# Altium schematic symbol library Components.SchLib: 216 symbols (part 2 of 2)
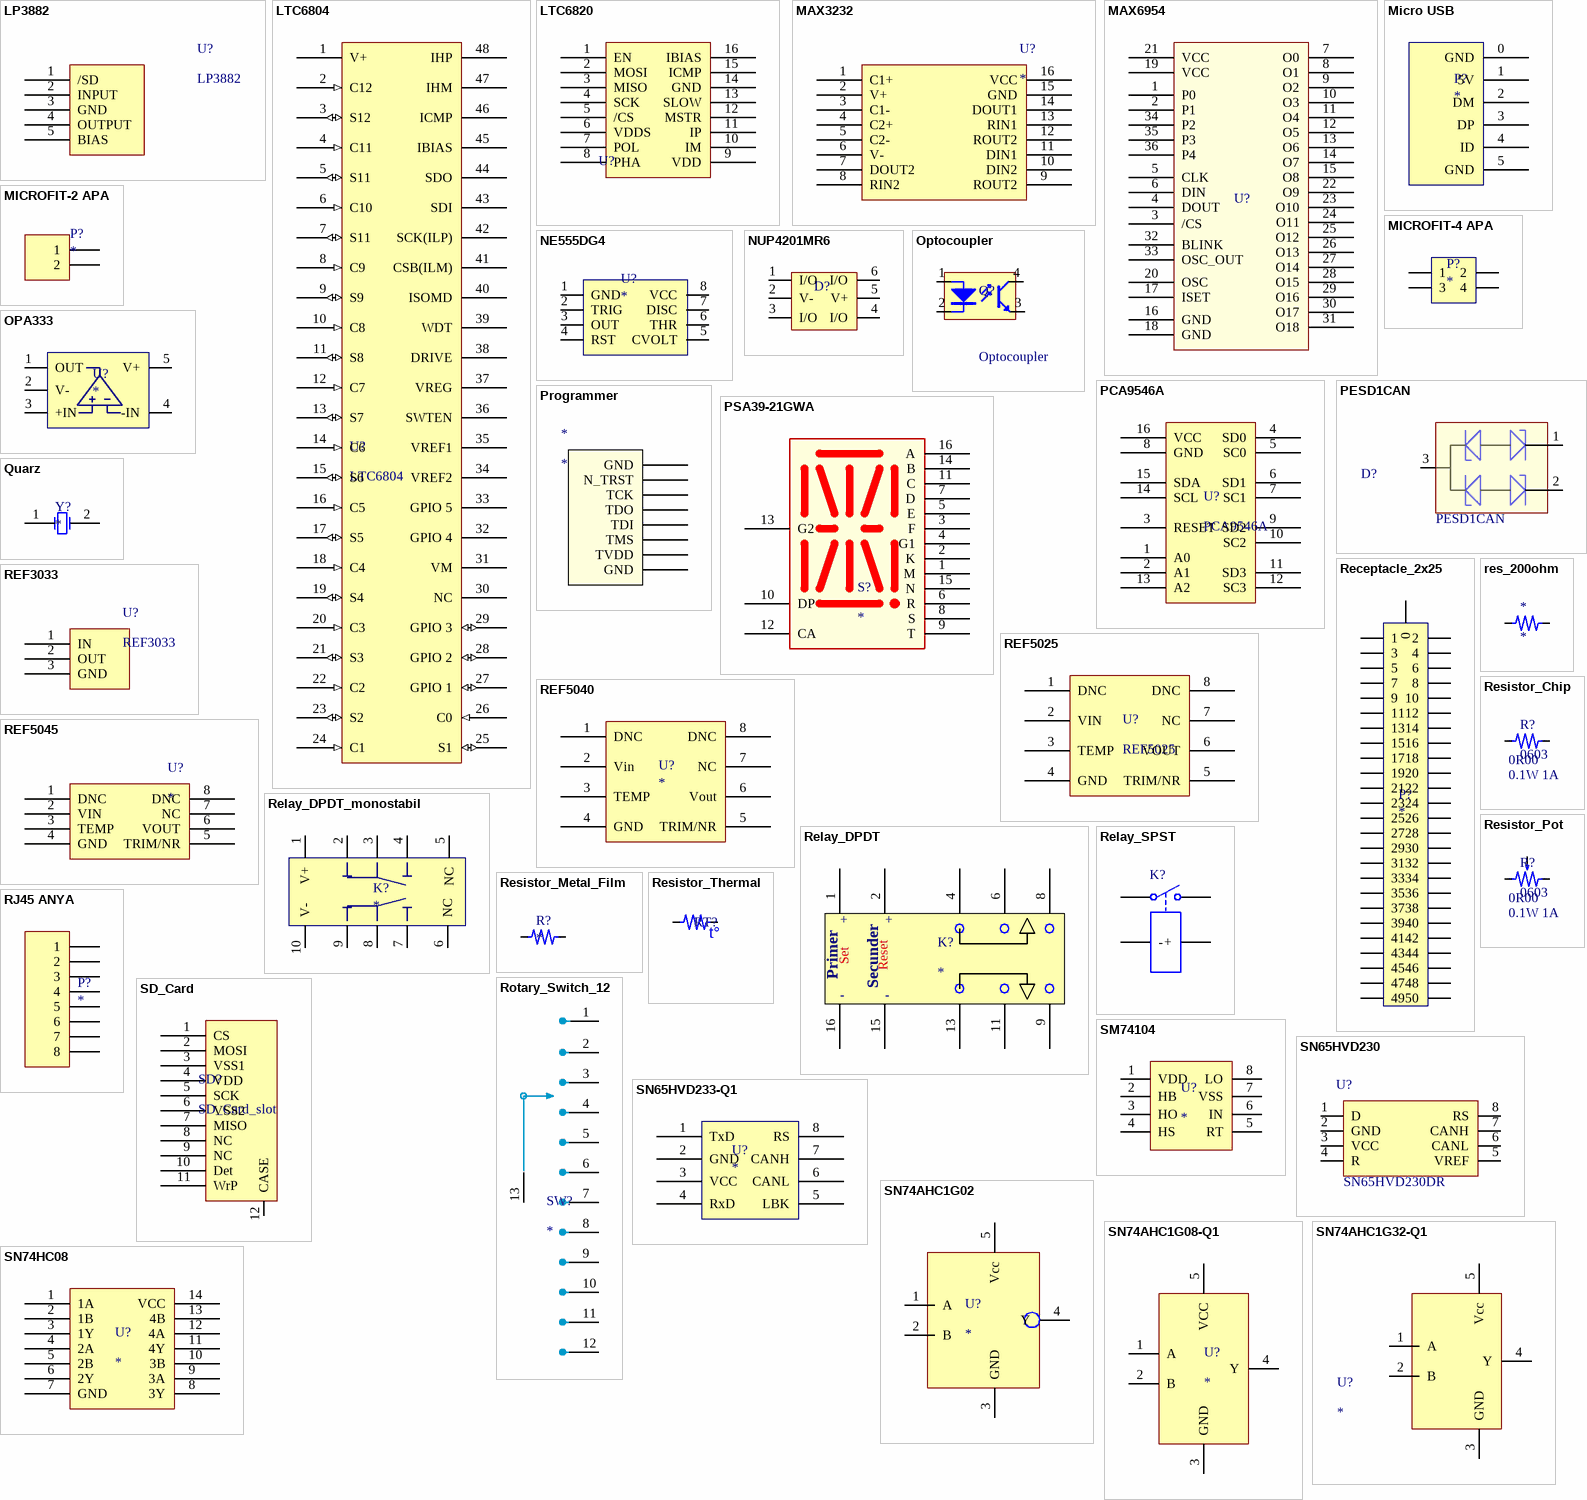
[diagram p10: symbols LP3882 to SN74HC08]

## SD_Card
designator SD?, comment SD_Card_slot
footprint SD_CARD
pins: 1 CS, 2 MOSI, 3 VSS1, 4 VDD, 5 SCK, 6 VSS2, 7 MISO, 8 NC, 9 NC, 10 Det, 11 WrP, 12 CASE

## SM74104
designator U?
High Voltage Half-Bridge Gate Driver
footprint SOIC-8
pins: 1 VDD, 2 HB, 3 HO, 4 HS, 5 RT, 6 IN, 7 VSS, 8 LO

## SN65HVD230
designator U?  value SN65HVD230DR
CAN Transceiver; Distributor: Farnell; Type: IC / CAN; Package: SOIC-8; Link: http://hu.farnell.com/texas-instruments/sn65hvd230dr/ic-can-transceiver-1mbps-8soic/dp/8452148?ost=8452148
footprint SOIC-8
pins: 1 D, 2 GND, 3 VCC, 4 R, 5 VREF, 6 CANL, 7 CANH, 8 RS

## SN65HVD233-Q1
designator U?
CAN Transceiver; Order number: SN65HVD233QDRQ1; Link: http://www.ti.com/product/SN65HVD233-Q1/description
footprint SOIC-8
pins: 1 TxD, 2 GND, 3 VCC, 4 RxD, 5 LBK, 6 CANL, 7 CANH, 8 RS

## SN74AHC1G02
designator U?
footprint SOT-23-5 (SOT23, 5-Leads, Body 2,90x2,80mm, Pitch 0,95mm, IPC Medium Density)
pins: 1 A, 2 B, 3 GND, 4 Y, 5 Vcc

## SN74AHC1G08-Q1
designator U?
AND Gate; Order number: 2346704; Link: http://www.ti.com/product/sn74ahc1g08-q1; Distributor: Farnell; Value: AND gate
footprint SOT-23-5 (SOT23, 5-Leads, Body 2,90x2,80mm, Pitch 0,95mm, IPC Medium Density)
pins: 1 A, 2 B, 3 GND, 4 Y, 5 VCC

## SN74AHC1G32-Q1
designator U?
OR Gate; Distributor: *; Link: http://www.ti.com/product/sn74ahc1g32-q1
footprint SOT-23-5 (SOT23, 5-Leads, Body 2,90x2,80mm, Pitch 0,95mm, IPC Medium Density)
pins: 1 A, 2 B, 3 GND, 4 Y, 5 Vcc

## SN74HC08
designator U?
footprint TSSOP-14N (TSOP, 14-Leads, Body 5,00x4,40mm, Pitch 0,65mm, IPC Medium Density)
pins: 1 1A, 2 1B, 3 1Y, 4 2A, 5 2B, 6 2Y, 7 GND, 8 3Y, 9 3A, 10 3B, 11 4Y, 12 4A, 13 4B, 14 VCC

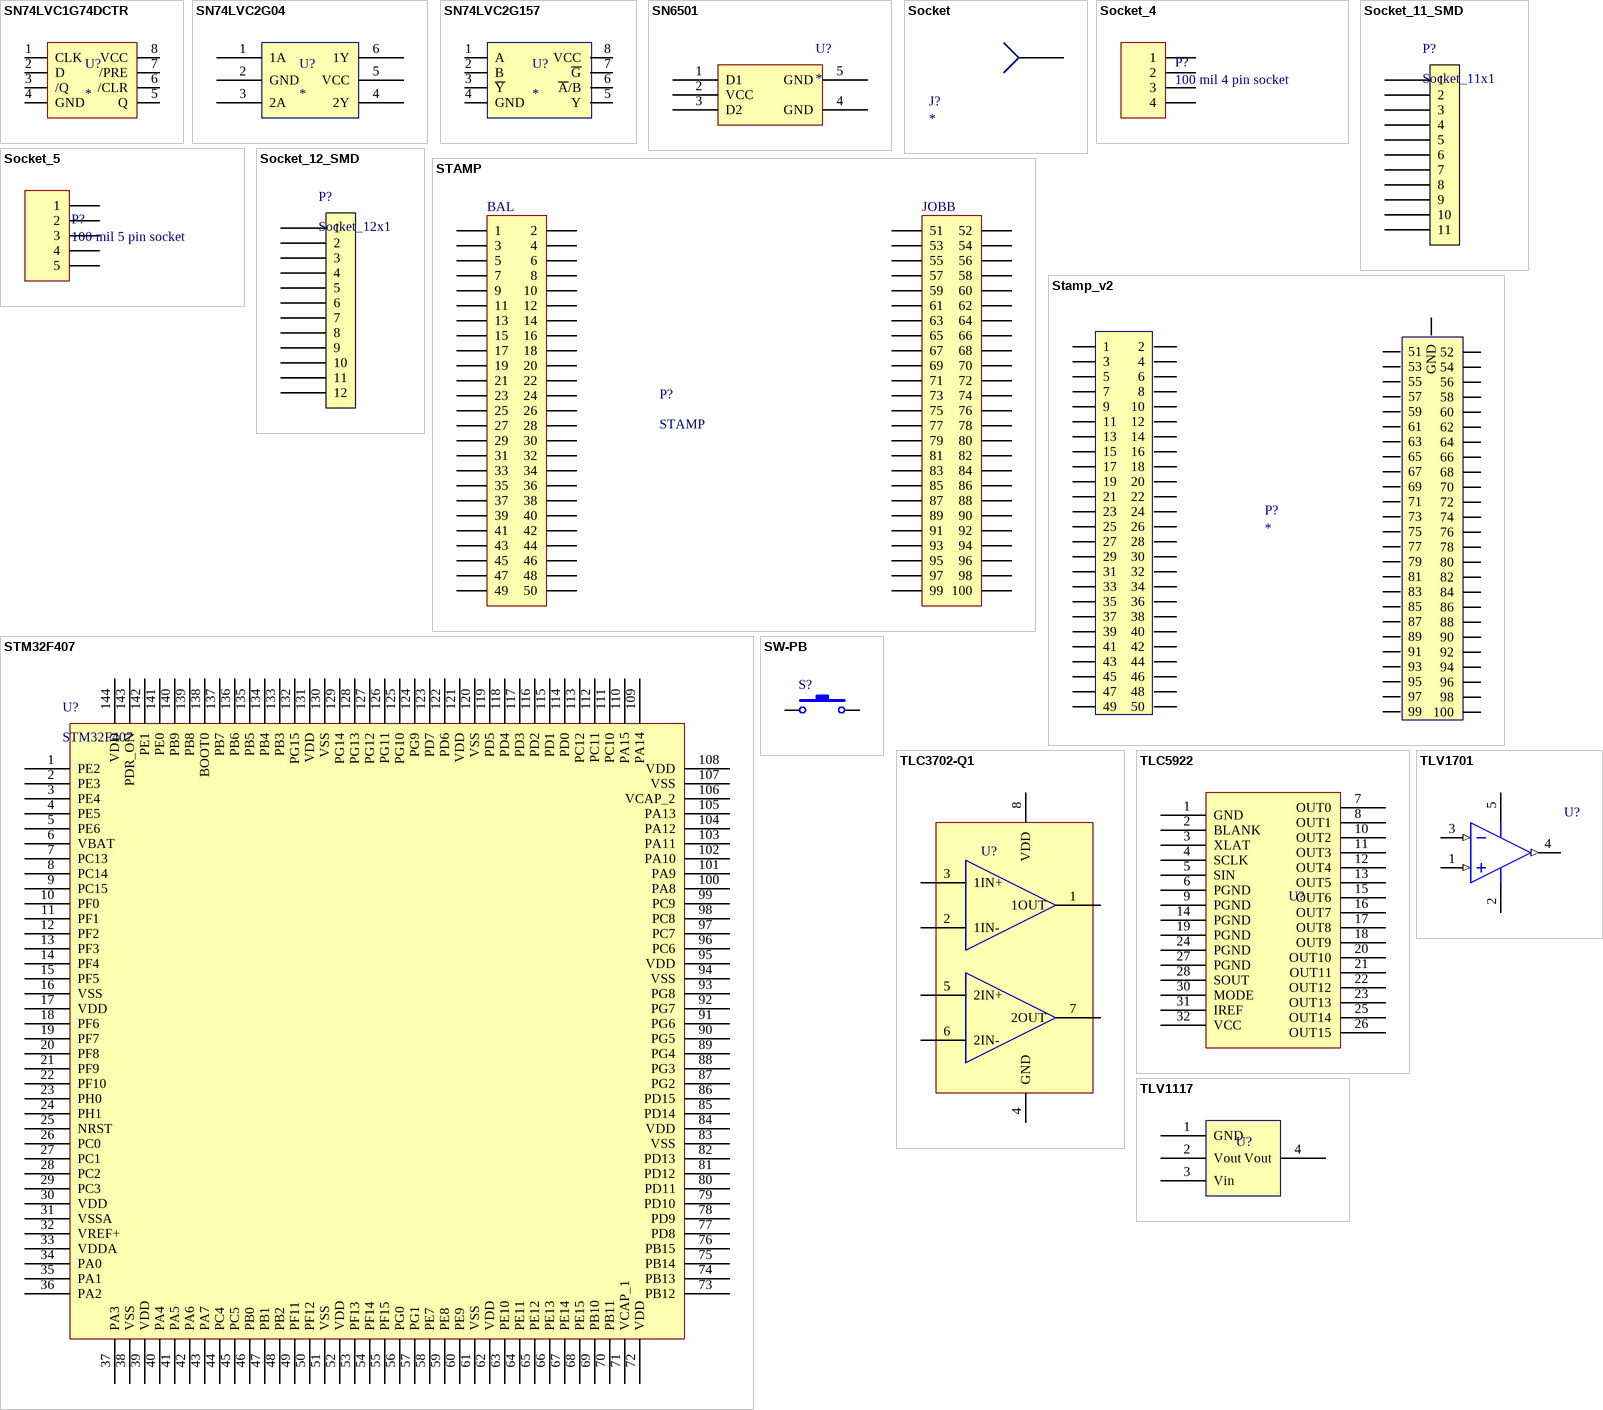
[diagram p7: symbols SN74LVC1G74DCTR to TLV1701]

## SN74LVC1G74DCTR
designator U?
footprint DCTR (SN74LVC1G74DCTR)
pins: 1 CLK, 2 D, 3 /Q, 4 GND, 5 Q, 6 /CLR, 7 /PRE, 8 VCC

## SN74LVC2G04
designator U?
Inverter
footprint SOT-23-6 (SOT23, 6-Leads, Body 2,90x3,60mm, Pitch 0,95mm, IPC High Density)
pins: 1 1A, 2 GND, 3 2A, 4 2Y, 5 VCC, 6 1Y

## SN74LVC2G157
designator U?
footprint VSSOP-8
pins: 1 A, 2 B, 3 ~{Y}, 4 GND, 5 Y, 6 ~{A}/B, 7 ~{G}, 8 VCC

## SN6501
designator U?
Distributor: Farnell; Type: SN6501DBVT
footprint SOT-23-5 (SOT23, 5-Leads, Body 2,90x2,80mm, Pitch 0,95mm, IPC Medium Density)
pins: 1 D1, 2 VCC, 3 D2, 4 GND, 5 GND

## Socket
designator J?
footprint TAB 6.35MM x 0.81MM
pins: 1

## Socket_4
designator P?, comment 100 mil 4 pin socket
footprint 4pin Socket
pins: 1, 2, 3, 4

## Socket_5
designator P?, comment 100 mil 5 pin socket
footprint 5pin Socket
pins: 1, 2, 3, 4, 5

## Socket_11_SMD
designator P?, comment Socket_11x1
100 mil 11 pin SMD socket
footprint 11PIN_SOCKET_SMD
pins: 1, 2, 3, 4, 5, 6, 7, 8, 9, 10, 11

## Socket_12_SMD
designator P?, comment Socket_12x1
100 mil 12 pin SMD socket
footprint 12PIN_SOCKET_SMD
pins: 1, 2, 3, 4, 5, 6, 7, 8, 9, 10, 11, 12

## STAMP
designator P?
footprint STAMP
pins: 1, 2, 3, 4, 5, 6, 7, 8, 9, 10, 11, 12, 13, 14, 15, 16, 17, 18, 19, 20, 21, 22, 23, 24, 25, 26, 27, 28, 29, 30, 31, 32, 33, 34, 35, 36, 37, 38, 39, 40, 41, 42, 43, 44, 45, 46, 47, 48, 49, 50, 51, 52, 53, 54, 55, 56, 57, 58, 59, 60, 61, 62, 63, 64, 65, 66, 67, 68, 69, 70, 71, 72, 73, 74, 75, 76, 77, 78, 79, 80, 81, 82, 83, 84, 85, 86, 87, 88, 89, 90, 91, 92, 93, 94, 95, 96, 97, 98, 99, 100
text: BAL; JOBB

## Stamp_v2
designator P?
footprint Stamp_v2
pins: 1, 2, 3, 4, 5, 6, 7, 8, 9, 10, 11, 12, 13, 14, 15, 16, 17, 18, 19, 20, 21, 22, 23, 24, 25, 26, 27, 28, 29, 30, 31, 32, 33, 34, 35, 36, 37, 38, 39, 40, 41, 42, 43, 44, 45, 46, 47, 48, 49, 50, 51, 52, 53, 54, 55, 56, 57, 58, 59, 60, 61, 62, 63, 64, 65, 66, 67, 68, 69, 70, 71, 72, 73, 74, 75, 76, 77, 78, 79, 80, 81, 82, 83, 84, 85, 86, 87, 88, 89, 90, 91, 92, 93, 94, 95, 96, 97, 98, 99, 100, GND

## STM32F407
designator U?
footprint LQFP-144 (TSQFP, 144-Leads, Body 20,00x20,00mm, Pitch 0,50mm, IPC Medium Density)
pins: 1 PE2, 2 PE3, 3 PE4, 4 PE5, 5 PE6, 6 VBAT, 7 PC13, 8 PC14, 9 PC15, 10 PF0, 11 PF1, 12 PF2, 13 PF3, 14 PF4, 15 PF5, 16 VSS, 17 VDD, 18 PF6, 19 PF7, 20 PF8, 21 PF9, 22 PF10, 23 PH0, 24 PH1, 25 NRST, 26 PC0, 27 PC1, 28 PC2, 29 PC3, 30 VDD, 31 VSSA, 32 VREF+, 33 VDDA, 34 PA0, 35 PA1, 36 PA2, 37 PA3, 38 VSS, 39 VDD, 40 PA4, 41 PA5, 42 PA6, 43 PA7, 44 PC4, 45 PC5, 46 PB0, 47 PB1, 48 PB2, 49 PF11, 50 PF12, 51 VSS, 52 VDD, 53 PF13, 54 PF14, 55 PF15, 56 PG0, 57 PG1, 58 PE7, 59 PE8, 60 PE9, 61 VSS, 62 VDD, 63 PE10, 64 PE11, 65 PE12, 66 PE13, 67 PE14, 68 PE15, 69 PB10, 70 PB11, 71 VCAP_1, 72 VDD, 73 PB12, 74 PB13, 75 PB14, 76 PB15, 77 PD8, 78 PD9, 79 PD10, 80 PD11, 81 PD12, 82 PD13, 83 VSS, 84 VDD, 85 PD14, 86 PD15, 87 PG2, 88 PG3, 89 PG4, 90 PG5, 91 PG6, 92 PG7, 93 PG8, 94 VSS, 95 VDD, 96 PC6, 97 PC7, 98 PC8, 99 PC9, 100 PA8, 101 PA9, 102 PA10, 103 PA11, 104 PA12, 105 PA13, 106 VCAP_2, 107 VSS, 108 VDD, 109 PA14, 110 PA15, 111 PC10, 112 PC11, 113 PC12, 114 PD0, 115 PD1, 116 PD2, 117 PD3, 118 PD4, 119 PD5, 120 VSS, 121 VDD, 122 PD6, 123 PD7, 124 PG9, 125 PG10, 126 PG11, 127 PG12, 128 PG13, 129 PG14, 130 VSS, 131 VDD, 132 PG15, 133 PB3, 134 PB4, 135 PB5, 136 PB6, 137 PB7, 138 BOOT0, 139 PB8, 140 PB9, 141 PE0, 142 PE1, 143 PDR_ON, 144 VDD

## SW-PB
designator S?
Switch
footprint SWITCH
pins: 1, 2

## TLC3702-Q1
designator U?
Dual Comparator; Distributor: *; Link: http://www.ti.com/product/tlc3702-q1
footprint SOIC-8
pins: 1 1OUT, 2 1IN-, 3 1IN+, 4 GND, 5 2IN+, 6 2IN-, 7 2OUT, 8 VDD

## TLC5922
designator U?
16 channel LED Driver
footprint HTSSOP-32 (TSSOP, 32-Leads, Body 11.10x6.10mm, Pitch 0.65mm, Thermal Pad 3.91x3.61mm, IPC Medium Density)
pins: 1 GND, 2 BLANK, 3 XLAT, 4 SCLK, 5 SIN, 6 PGND, 7 OUT0, 8 OUT1, 9 PGND, 10 OUT2, 11 OUT3, 12 OUT4, 13 OUT5, 14 PGND, 15 OUT6, 16 OUT7, 17 OUT8, 18 OUT9, 19 PGND, 20 OUT10, 21 OUT11, 22 OUT12, 23 OUT13, 24 PGND, 25 OUT14, 26 OUT15, 27 PGND, 28 SOUT, 30 MODE, 31 IREF, 32 VCC

## TLV1117
designator U?
Single Output LDO
footprint SOT-223 (SOT223, 4-Leads, Body 6,50x7,00mm (avg), Pitch 2,30mm, IPC Medium Density)
pins: 1 GND, 2 Vout, 3 Vin, 4 Vout

## TLV1701
designator U?
FET Operational Amplifier
footprint SOT-23-5 (SOT23, 5-Leads, Body 2,90x2,80mm, Pitch 0,95mm, IPC Medium Density)
simulation model AD645A (Spice Subcircuit)
pins: 1 IN+ (in), 2 V- (power), 3 IN- (in), 4 OUT (out), 5 V+ (power)

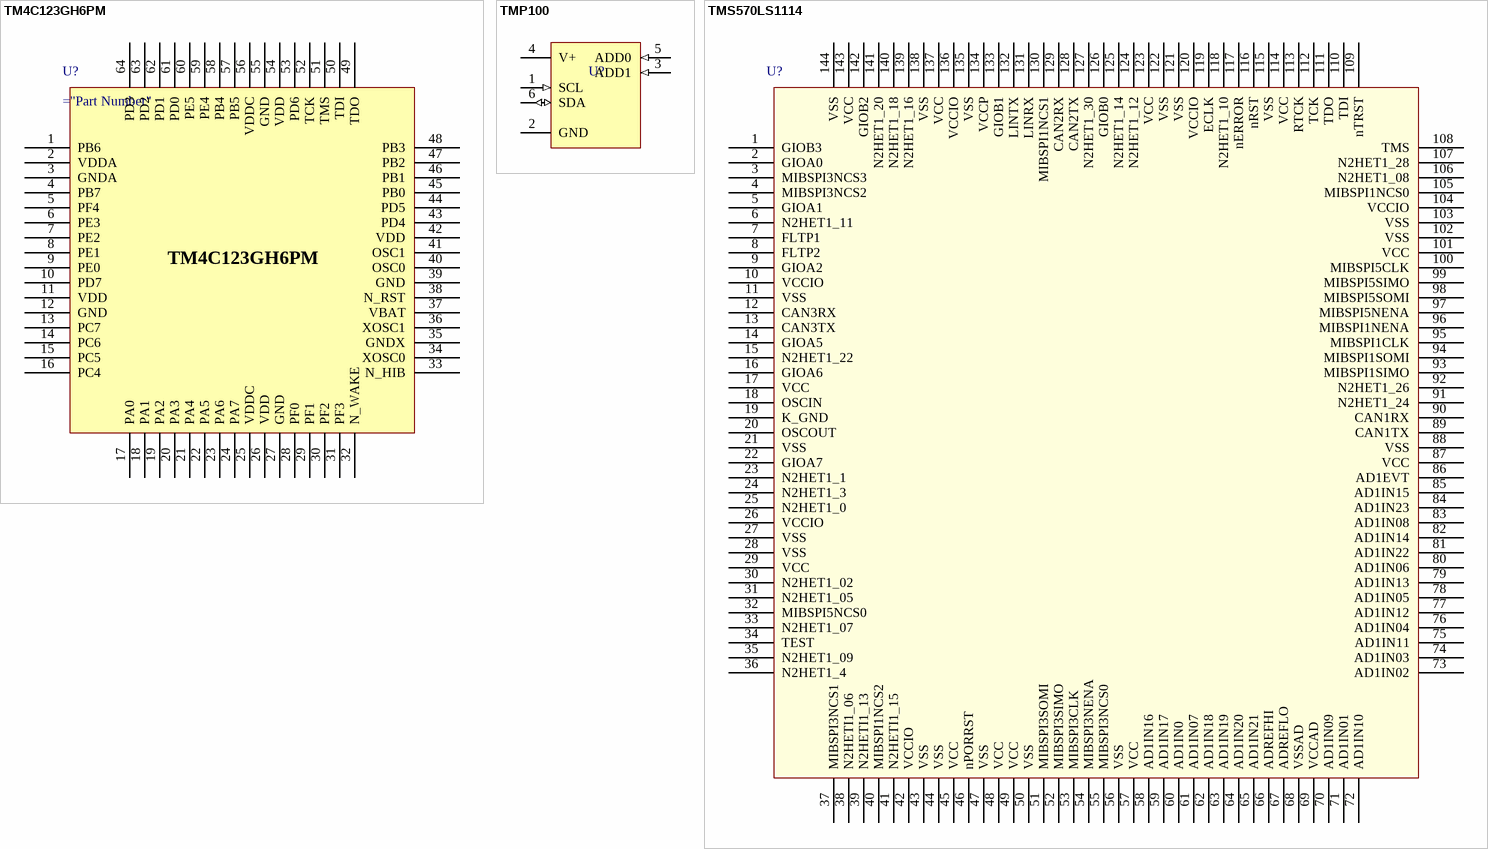
[diagram p8: symbols TM4C123GH6PM to TMS570LS1114]

## TM4C123GH6PM
designator U?
32-bit Microcontroller
footprint LQFP-64
pins: 1 PB6, 2 VDDA, 3 GNDA, 4 PB7, 5 PF4, 6 PE3, 7 PE2, 8 PE1, 9 PE0, 10 PD7, 11 VDD, 12 GND, 13 PC7, 14 PC6, 15 PC5, 16 PC4, 17 PA0, 18 PA1, 19 PA2, 20 PA3, 21 PA4, 22 PA5, 23 PA6, 24 PA7, 25 VDDC, 26 VDD, 27 GND, 28 PF0, 29 PF1, 30 PF2, 31 PF3, 32 N_WAKE, 33 N_HIB, 34 XOSC0, 35 GNDX, 36 XOSC1, 37 VBAT, 38 N_RST, 39 GND, 40 OSC0, 41 OSC1, 42 VDD, 43 PD4, 44 PD5, 45 PB0, 46 PB1, 47 PB2, 48 PB3, 49 TDO, 50 TDI, 51 TMS, 52 TCK, 53 PD6, 54 VDD, 55 GND, 56 VDDC, 57 PB5, 58 PB4, 59 PE4, 60 PE5, 61 PD0, 62 PD1, 63 PD2, 64 PD3

## TMP100
designator U?
Digital Temperature Sensor  with I2C  Interface; Type: TMP100
footprint SOT-23-6 (Footprint not found)
pins: 1 SCL (in), 2 GND (power), 3 ADD1 (in), 4 V+ (power), 5 ADD0 (in), 6 SDA (io)

## TMS570LS1114
designator U?
32-bit Microcontroller
pins: 1 GIOB3, 2 GIOA0, 3 MIBSPI3NCS3, 4 MIBSPI3NCS2, 5 GIOA1, 6 N2HET1_11, 7 FLTP1, 8 FLTP2, 9 GIOA2, 10 VCCIO, 11 VSS, 12 CAN3RX, 13 CAN3TX, 14 GIOA5, 15 N2HET1_22, 16 GIOA6, 17 VCC, 18 OSCIN, 19 K_GND, 20 OSCOUT, 21 VSS, 22 GIOA7, 23 N2HET1_1, 24 N2HET1_3, 25 N2HET1_0, 26 VCCIO, 27 VSS, 28 VSS, 29 VCC, 30 N2HET1_02, 31 N2HET1_05, 32 MIBSPI5NCS0, 33 N2HET1_07, 34 TEST, 35 N2HET1_09, 36 N2HET1_4, 37 MIBSPI3NCS1, 38 N2HETI1_06, 39 N2HETI1_13, 40 MIBSPI1NCS2, 41 N2HETI1_15, 42 VCCIO, 43 VSS, 44 VSS, 45 VCC, 46 nPORRST, 47 VSS, 48 VCC, 49 VCC, 50 VSS, 51 MIBSPI3SOMI, 52 MIBSPI3SIMO, 53 MIBSPI3CLK, 54 MIBSPI3NENA, 55 MIBSPI3NCS0, 56 VSS, 57 VCC, 58 AD1IN16, 59 AD1IN17, 60 AD1IN0, 61 AD1IN07, 62 AD1IN18, 63 AD1IN19, 64 AD1IN20, 65 AD1IN21, 66 ADREFHI, 67 ADREFLO, 68 VSSAD, 69 VCCAD, 70 AD1IN09, 71 AD1IN01, 72 AD1IN10, 73 AD1IN02, 74 AD1IN03, 75 AD1IN11, 76 AD1IN04, 77 AD1IN12, 78 AD1IN05, 79 AD1IN13, 80 AD1IN06, 81 AD1IN22, 82 AD1IN14, 83 AD1IN08, 84 AD1IN23, 85 AD1IN15, 86 AD1EVT, 87 VCC, 88 VSS, 89 CAN1TX, 90 CAN1RX, 91 N2HET1_24, 92 N2HET1_26, 93 MIBSPI1SIMO, 94 MIBSPI1SOMI, 95 MIBSPI1CLK, 96 MIBSPI1NENA, 97 MIBSPI5NENA, 98 MIBSPI5SOMI, 99 MIBSPI5SIMO, 100 MIBSPI5CLK, 101 VCC, 102 VSS, 103 VSS, 104 VCCIO, 105 MIBSPI1NCS0, 106 N2HET1_08, 107 N2HET1_28, 108 TMS, 109 nTRST, 110 TDI, 111 TDO, 112 TCK, 113 RTCK, 114 VCC, 115 VSS, 116 nRST, 117 nERROR, 118 N2HET1_10, 119 ECLK, 120 VCCIO, 121 VSS, 122 VSS, 123 VCC, 124 N2HET1_12, 125 N2HET1_14, 126 GIOB0, 127 N2HET1_30, 128 CAN2TX, 129 CAN2RX, 130 MIBSPI1NCS1, 131 LINRX, 132 LINTX, 133 GIOB1, 134 VCCP, 135 VSS, 136 VCCIO, 137 VCC, 138 VSS, 139 N2HET1_16, 140 N2HET1_18, 141 N2HET1_20, 142 GIOB2, 143 VCC, 144 VSS

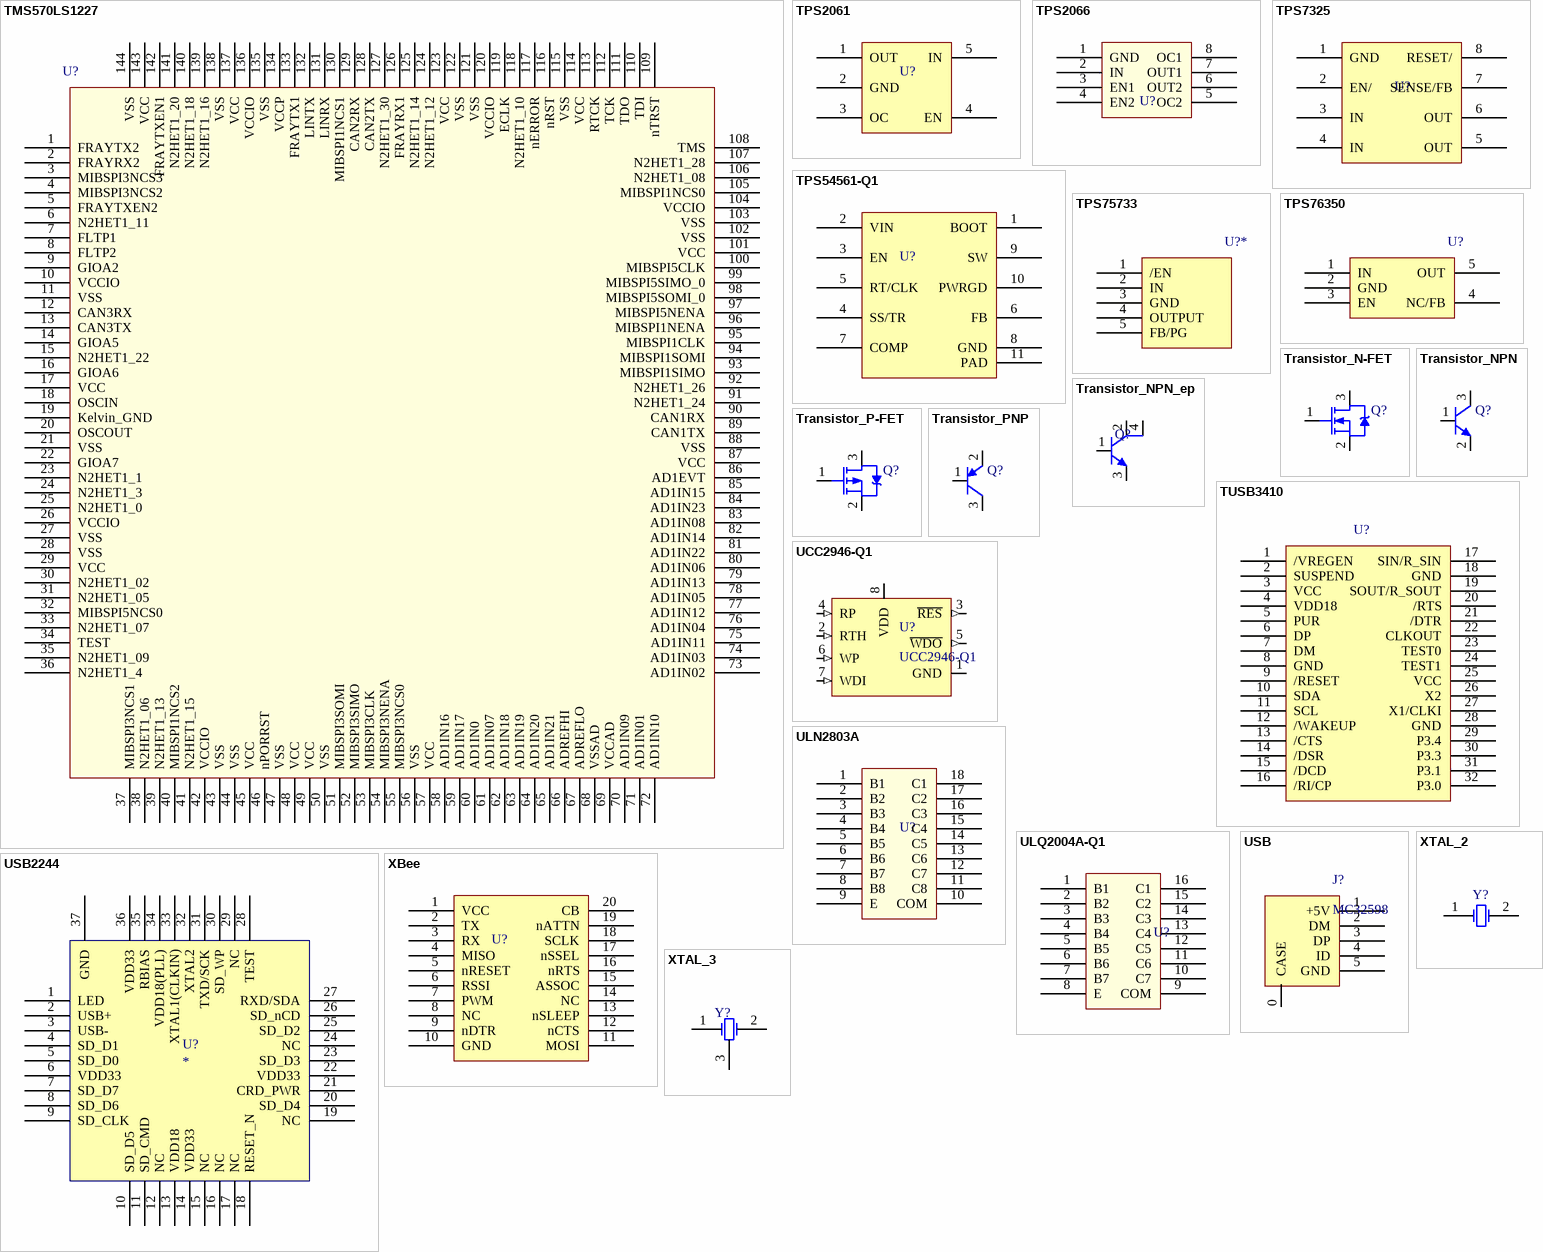
[diagram p9: symbols TMS570LS1227 to XTAL_3]

## TMS570LS1227
designator U?
32-bit Microcontroller
pins: 1 FRAYTX2, 2 FRAYRX2, 3 MIBSPI3NCS3, 4 MIBSPI3NCS2, 5 FRAYTXEN2, 6 N2HET1_11, 7 FLTP1, 8 FLTP2, 9 GIOA2, 10 VCCIO, 11 VSS, 12 CAN3RX, 13 CAN3TX, 14 GIOA5, 15 N2HET1_22, 16 GIOA6, 17 VCC, 18 OSCIN, 19 Kelvin_GND, 20 OSCOUT, 21 VSS, 22 GIOA7, 23 N2HET1_1, 24 N2HET1_3, 25 N2HET1_0, 26 VCCIO, 27 VSS, 28 VSS, 29 VCC, 30 N2HET1_02, 31 N2HET1_05, 32 MIBSPI5NCS0, 33 N2HET1_07, 34 TEST, 35 N2HET1_09, 36 N2HET1_4, 37 MIBSPI3NCS1, 38 N2HET1_06, 39 N2HET1_13, 40 MIBSPI1NCS2, 41 N2HET1_15, 42 VCCIO, 43 VSS, 44 VSS, 45 VCC, 46 nPORRST, 47 VSS, 48 VCC, 49 VCC, 50 VSS, 51 MIBSPI3SOMI, 52 MIBSPI3SIMO, 53 MIBSPI3CLK, 54 MIBSPI3NENA, 55 MIBSPI3NCS0, 56 VSS, 57 VCC, 58 AD1IN16, 59 AD1IN17, 60 AD1IN0, 61 AD1IN07, 62 AD1IN18, 63 AD1IN19, 64 AD1IN20, 65 AD1IN21, 66 ADREFHI, 67 ADREFLO, 68 VSSAD, 69 VCCAD, 70 AD1IN09, 71 AD1IN01, 72 AD1IN10, 73 AD1IN02, 74 AD1IN03, 75 AD1IN11, 76 AD1IN04, 77 AD1IN12, 78 AD1IN05, 79 AD1IN13, 80 AD1IN06, 81 AD1IN22, 82 AD1IN14, 83 AD1IN08, 84 AD1IN23, 85 AD1IN15, 86 AD1EVT, 87 VCC, 88 VSS, 89 CAN1TX, 90 CAN1RX, 91 N2HET1_24, 92 N2HET1_26, 93 MIBSPI1SIMO, 94 MIBSPI1SOMI, 95 MIBSPI1CLK, 96 MIBSPI1NENA, 97 MIBSPI5NENA, 98 MIBSPI5SOMI_0, 99 MIBSPI5SIMO_0, 100 MIBSPI5CLK, 101 VCC, 102 VSS, 103 VSS, 104 VCCIO, 105 MIBSPI1NCS0, 106 N2HET1_08, 107 N2HET1_28, 108 TMS, 109 nTRST, 110 TDI, 111 TDO, 112 TCK, 113 RTCK, 114 VCC, 115 VSS, 116 nRST, 117 nERROR, 118 N2HET1_10, 119 ECLK, 120 VCCIO, 121 VSS, 122 VSS, 123 VCC, 124 N2HET1_12, 125 N2HET1_14, 126 FRAYRX1, 127 N2HET1_30, 128 CAN2TX, 129 CAN2RX, 130 MIBSPI1NCS1, 131 LINRX, 132 LINTX, 133 FRAYTX1, 134 VCCP, 135 VSS, 136 VCCIO, 137 VCC, 138 VSS, 139 N2HET1_16, 140 N2HET1_18, 141 N2HET1_20, 142 FRAYTXEN1, 143 VCC, 144 VSS

## TPS2061
designator U?
High Side Switch
footprint SOT-23-5 (Footprint not found)
pins: 1 OUT, 2 GND, 3 OC, 4 EN, 5 IN

## TPS2066
designator U?
High Side Switch; Distributor: TI; Link: http://www.ti.com/product/tps2066; Value: *
footprint SOIC-8
pins: 1 GND, 2 IN, 3 EN1, 4 EN2, 5 OC2, 6 OUT2, 7 OUT1, 8 OC1

## TPS7325
designator U?
footprint SOIC-8
pins: 1 GND, 2 EN/, 3 IN, 4 IN, 5 OUT, 6 OUT, 7 SENSE/FB, 8 RESET/

## TPS54561-Q1
designator U?
SMPS IC; Order Number: *; Value: *; Distributor: Texas Instruments
footprint WSON-10
pins: 1 BOOT, 2 VIN, 3 EN, 4 SS/TR, 5 RT/CLK, 6 FB, 7 COMP, 8 GND, 9 SW, 10 PWRGD, 11 PAD

## TPS75733
designator U?*
LDO 3.3V; Distributor: Farnell
pins: 1 /EN, 2 IN, 3 GND, 4 OUTPUT, 5 FB/PG

## TPS76350
designator U?
LDO; Distributor: Farnell; Type: TPS76350DBVT
footprint SOT-23-5 (SOT23, 5-Leads, Body 2,90x2,80mm, Pitch 0,95mm, IPC Medium Density)
pins: 1 IN, 2 GND, 3 EN, 4 NC/FB, 5 OUT

## Transistor_N-FET
designator Q?
N-Channel Power MOSFET; Note: Pin 2 is electrically connected to pin 4.
footprint SOT-23-3 (SOT23, 3-Leads, Body 2,90x2,45mm, Pitch 0,95mm, IPC Medium Density)
simulation model IRF1010 (Spice Subcircuit)
pins: 1 G, 2 S, 3 D

## Transistor_NPN
designator Q?
NPN Bipolar Transistor
footprint SOT-23-3 (SOT23, 3-Leads, Body 2,90x2,45mm, Pitch 0,95mm, IPC Medium Density)
simulation model NPN
signal-integrity model NPN
pins: 1 B, 2 E, 3 C

## Transistor_NPN_ep
designator Q?
NPN silicon epitaxial transistor
footprint SOT-223 (SOT223, 4-Leads, Body 6,50x7,00mm (avg), Pitch 2,30mm, IPC Medium Density)
pins: 1 B, 2 C, 3 E, 4 C

## Transistor_P-FET
designator Q?
P-Channel Power MOSFET; Note: Pin 4 not drawn and electrically connected to Pin 2.
footprint SOT-23-3 (SOT23, 3-Leads, Body 2,90x2,45mm, Pitch 0,95mm, IPC Medium Density)
simulation model IRF9510 (Spice Subcircuit)
pins: 1 G, 2 S, 3 D

## Transistor_PNP
designator Q?
PNP Bipolar Transistor
footprint SOT-23-3 (SOT23, 3-Leads, Body 2,90x2,45mm, Pitch 0,95mm, IPC Medium Density)
simulation model PNP
signal-integrity model PNP
pins: 1 B, 2 E, 3 C

## TUSB3410
designator U?
TUSB3410
pins: 1 /VREGEN, 2 SUSPEND, 3 VCC, 4 VDD18, 5 PUR, 6 DP, 7 DM, 8 GND, 9 /RESET, 10 SDA, 11 SCL, 12 /WAKEUP, 13 /CTS, 14 /DSR, 15 /DCD, 16 /RI/CP, 17 SIN/R_SIN, 18 GND, 19 SOUT/R_SOUT, 20 /RTS, 21 /DTR, 22 CLKOUT, 23 TEST0, 24 TEST1, 25 VCC, 26 X2, 27 X1/CLKI, 28 GND, 29 P3.4, 30 P3.3, 31 P3.1, 32 P3.0

## UCC2946-Q1
designator U?
Microprocessor Supervisor with Watchdog Timer; Alternative Product: http://hu.farnell.com/texas-instruments/ucc2946pw/voltage-supervisor-12ua-5-5v-tssop/dp/2492584?st=ucc2946; Link: http://www.ti.com/lit/ds/symlink/ucc2946-q1.pdf
footprint TSSOP-8N (TSOP, 8-Leads, Body 3,00x4,40mm, Pitch 0,65mm, IPC Medium Density)
pins: 1 GND (power), 2 RTH (in), 3 ~{RES} (out), 4 RP (in), 5 ~{WDO} (out), 6 WP (in), 7 WDI (in), 8 VDD (power)

## ULN2803A
designator U?
NPN Darlington Array; Value: NPN; Distributor: TI; Link: http://www.ti.com/product/uln2803a/description
footprint SOIC-18
pins: 1 B1, 2 B2, 3 B3, 4 B4, 5 B5, 6 B6, 7 B7, 8 B8, 9 E, 10 COM, 11 C8, 12 C7, 13 C6, 14 C5, 15 C4, 16 C3, 17 C2, 18 C1

## ULQ2004A-Q1
designator U?
NPN Darlington Array; Link: http://www.ti.com/product/ulq2004a-q1; Value: *; Distributor: TI
footprint SOP-16 (PCA9546A)
pins: 1 B1, 2 B2, 3 B3, 4 B4, 5 B5, 6 B6, 7 B7, 8 E, 9 COM, 10 C7, 11 C6, 12 C5, 13 C4, 14 C3, 15 C2, 16 C1

## USB
designator J?, comment MC32598
Distributor: Farnell; Type: MC32598
footprint USB_Mini
pins: 0 CASE, 1 +5V, 2 DM, 3 DP, 4 ID, 5 GND

## USB2244
designator U?
footprint QFN-36 (QFN, 36-Leads, Body 6,00x6,00mm, Pitch 0,50mm, Thermal Pad 4,10x4,10mm, IPC Medium Density)
pins: 1 LED, 2 USB+, 3 USB-, 4 SD_D1, 5 SD_D0, 6 VDD33, 7 SD_D7, 8 SD_D6, 9 SD_CLK, 10 SD_D5, 11 SD_CMD, 12 NC, 13 VDD18, 14 VDD33, 15 NC, 16 NC, 17 NC, 18 RESET_N, 19 NC, 20 SD_D4, 21 CRD_PWR, 22 VDD33, 23 SD_D3, 24 NC, 25 SD_D2, 26 SD_nCD, 27 RXD/SDA, 28 TEST, 29 NC, 30 SD_WP, 31 TXD/SCK, 32 XTAL2, 33 XTAL1(CLKIN), 34 VDD18(PLL), 35 RBIAS, 36 VDD33, 37 GND

## XBee
designator U?
footprint XBee
pins: 1 VCC, 2 TX, 3 RX, 4 MISO, 5 nRESET, 6 RSSI, 7 PWM, 8 NC, 9 nDTR, 10 GND, 11 MOSI, 12 nCTS, 13 nSLEEP, 14 NC, 15 ASSOC, 16 nRTS, 17 nSSEL, 18 SCLK, 19 nATTN, 20 CB

## XTAL_2
designator Y?
Crystal Oscillator
footprint QUARZ
simulation model XTAL (Spice Subcircuit)
pins: 1 OSC1, 2 OSC2

## XTAL_3
designator Y?
Crystal Oscillator
footprint QUARZ_2
pins: 1 OSC1, 2 OSC2, 3 OSC3